# Altium integrated library JS202011AQN.IntLib: 1 symbol
Pins are listed as number, name and electrical type; pins without a type are passive.

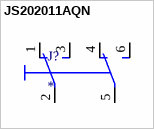
[diagram p0: symbol JS202011AQN]

## JS202011AQN
designator J?
Slide Switch DPDT Through Hole, Right Angle; MP: JS202011AQN; MF: C&K; Price: None; Availability: In Stock; SnapEDA_Link: https://www.snapeda.com/parts/JS202011AQN/C%2526K/view-part/?ref=snap; Check_prices: https://www.snapeda.com/parts/JS202011AQN/C%2526K/view-part/?ref=eda; Purchase-URL: https://pricing.snapeda.com/search/part/JS202011AQN/?ref=eda; Value: *; Package: None
footprint JS202011AQN
pins: 1 O, 2 P, 3 S, 4 O1, 5 P1, 6 S1